# Altium schematic symbol library 原理图库.SchLib: 24 symbols
Pins are listed as number, name and electrical type; pins without a type are passive.

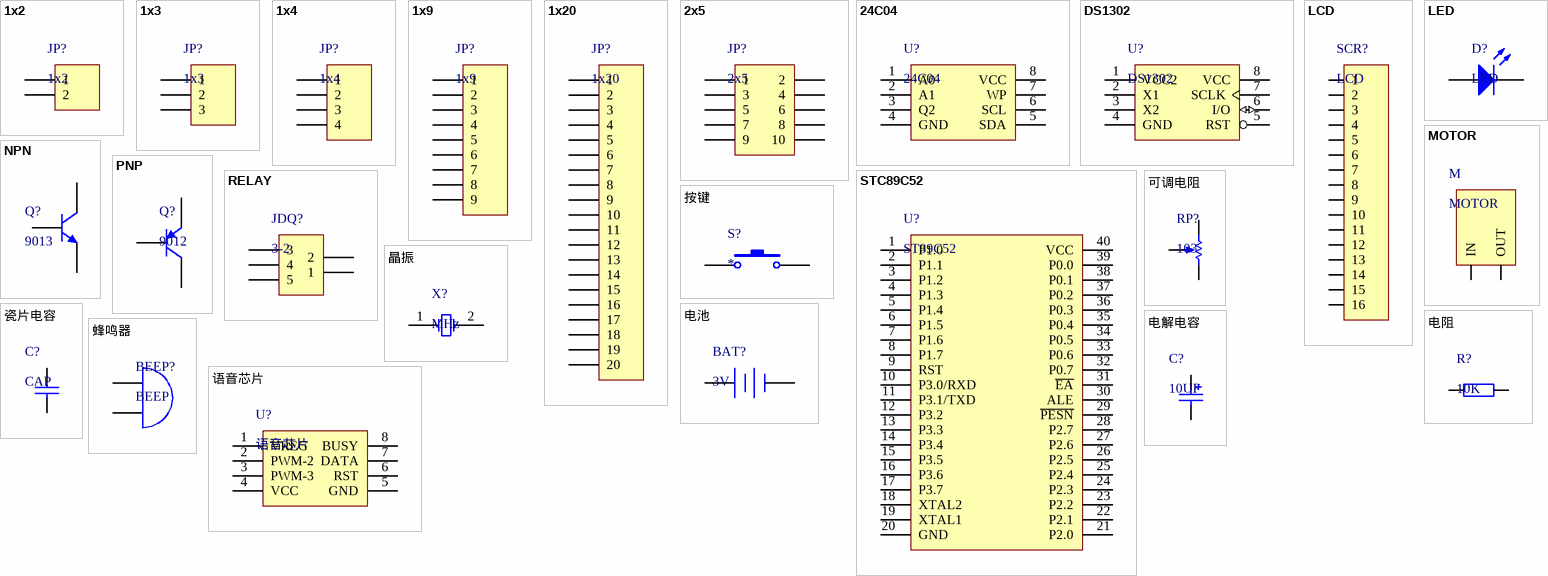
[diagram p0: symbols 1x2 to 语音芯片]

## 1x2
designator JP?
footprint 5.08DZ
footprint dc-0005
pins: 1, 2

## 1x3
designator JP?
footprint PZ-3
pins: 1, 2, 3

## 1x4
designator JP?
footprint PZ-4
pins: 1, 2, 3, 4

## 1x9
designator JP?
footprint PZ-9
pins: 1, 2, 3, 4, 5, 6, 7, 8, 9

## 1x20
designator JP?
footprint PZ-20
pins: 1, 2, 3, 4, 5, 6, 7, 8, 9, 10, 11, 12, 13, 14, 15, 16, 17, 18, 19, 20

## 2x5
designator JP?
footprint PZ-2x5
pins: 1, 2, 3, 4, 5, 6, 7, 8, 9, 10

## 24C04
designator U?
footprint DIP8
pins: 1 A0, 2 A1, 3 Q2, 4 GND, 5 SDA, 6 SCL, 7 WP, 8 VCC

## DS1302
designator U?
footprint DIP8
pins: 1 VCC2, 2 X1, 3 X2, 4 GND, 5 RST, 6 I/O (io), 7 SCLK, 8 VCC

## LCD
designator SCR?
pins: ?1 1, ?2 2, ?3 3, ?4 4, ?5 5, ?6 6, ?7 7, ?8 8, ?9 9, ?10 10, ?11 11, ?12 12, ?13 13, ?14 14, ?15 15, ?16 16

## LED
designator D?
footprint 0805-led
pins: 1 A, 2 K

## MOTOR
designator M
pins: ?1 OUT, ?2 IN

## NPN
designator Q?, comment 9013
pins: 1 C, 2 B, 3 E

## PNP
designator Q?, comment 9012
footprint 9012-TO-92
pins: 1 E, 2 B, 3 C

## RELAY
designator JDQ?, comment 3-2
pins: ?1 1, ?2 2, ?3 5, ?4 4, ?5 3

## STC89C52
designator U?, comment ST89C52
footprint DIP40
pins: 1 P1.0, 2 P1.1, 3 P1.2, 4 P1.3, 5 P1.4, 6 P1.5, 7 P1.6, 8 P1.7, 9 RST, 10 P3.0/RXD, 11 P3.1/TXD, 12 P3.2, 13 P3.3, 14 P3.4, 15 P3.5, 16 P3.6, 17 P3.7, 18 XTAL2, 19 XTAL1, 20 GND, 21 P2.0, 22 P2.1, 23 P2.2, 24 P2.3, 25 P2.4, 26 P2.5, 27 P2.6, 28 P2.7, 29 ~{PESN}, 30 ALE, 31 ~{EA}, 32 P0.7, 33 P0.6, 34 P0.5, 35 P0.4, 36 P0.3, 37 P0.2, 38 P0.1, 39 P0.0, 40 VCC

## 可调电阻
designator RP?, comment 103
footprint VR
pins: 1 TOP, 2 TAP, 3 BOT

## 按键
designator S?
footprint KEY-4
pins: 1, 2

## 晶振
designator X?, comment MHz
footprint 12mhz
footprint 32.768khz
pins: 1 OSC1, 2 OSC2

## 瓷片电容
designator C?, comment CAP
footprint cap-cp
pins: 1, 2

## 电池
designator BAT?, comment 3V
footprint CR3202
pins: 1 +, 2 -

## 电解电容
designator C?, comment 10UF
footprint CAP-DJ
pins: 1, 2

## 电阻
designator R?, comment 10K
footprint 0805-res
pins: 1, 2

## 蜂鸣器
designator BEEP?, comment BEEP
footprint BEEP
pins: 1 A, 2 B

## 语音芯片
designator U?
footprint DIP8
pins: 1 VREG, 2 PWM-2, 3 PWM-3, 4 VCC, 5 GND, 6 RST, 7 DATA, 8 BUSY